# Altium schematic symbol library IMX6DL.SchLib: 59 symbols
Pins are listed as number, name and electrical type; pins without a type are passive.

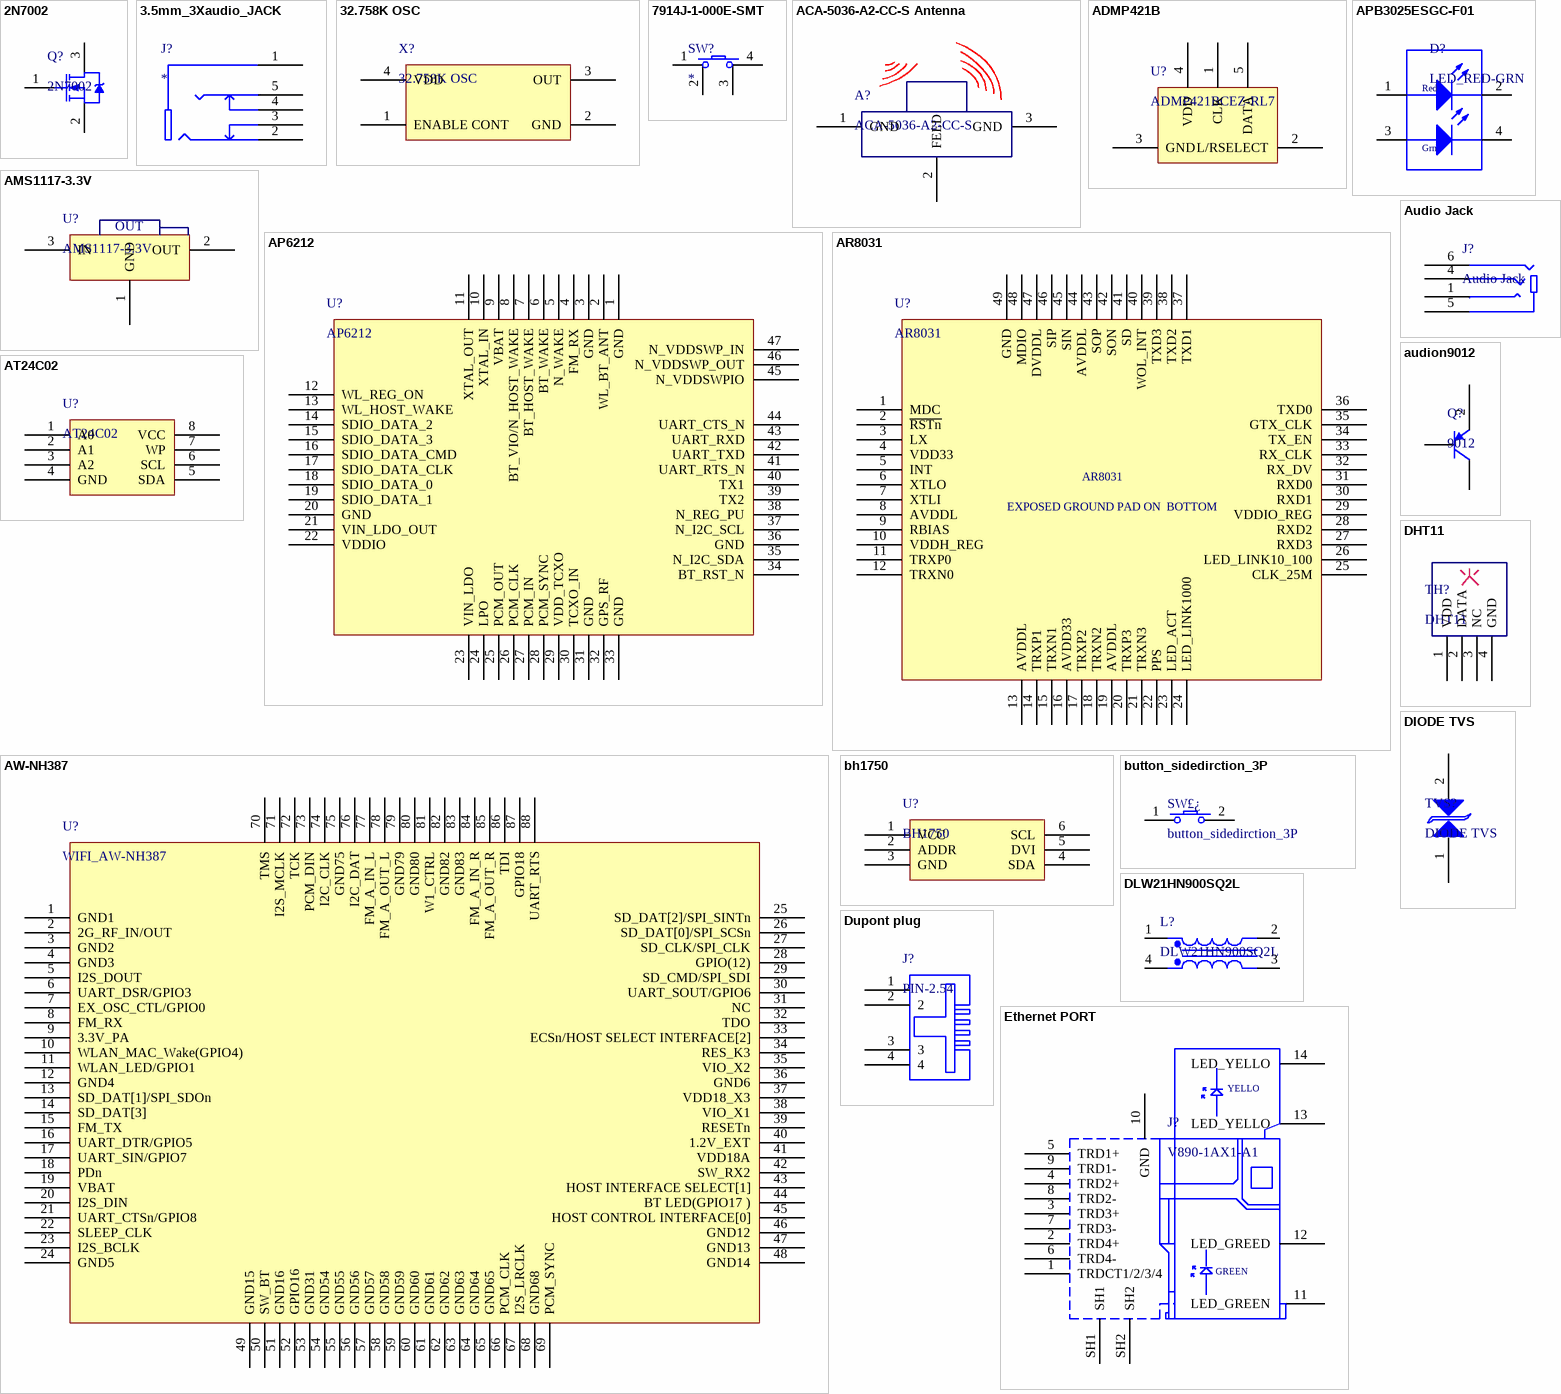
[diagram p0: symbols 2N7002 to Ethernet PORT]

## 2N7002
designator Q?
footprint 2N7002
pins: 1 G, 2 S, 3 D

## 3.5mm_3Xaudio_JACK
designator J?
footprint 3.5mm-3Xaudio-jack
pins: 1 18, 2 19, 3 20, 4 21, 5 22

## 32.758K OSC
designator X?
footprint 32.768K OSC
pins: 1 ENABLE CONT, 2 GND, 3 OUT, 4 VDD

## 7914J-1-000E-SMT
designator SW?
footprint 7914J-1-000E
pins: 1 3, 2 4, 3 5, 4 6

## ACA-5036-A2-CC-S Antenna
designator A?, comment ACA-5036-A2-CC-S
footprint ACA-5036-A2-CC-S
pins: 1 GND, 2 FEED, 3 GND

## ADMP421B
designator U?, comment ADMP421BCEZ-RL7
footprint ADMP421B-LGA_CAV
pins: 1 CLK, 2 L/RSELECT, 3 GND, 4 VDD, 5 DATA

## AMS1117-3.3V
designator U?
footprint AMS1117-3.3_SOT-223
pins: 1 GND, 2 OUT, 3 IN

## AP6212
designator U?
footprint AP6212-LCC44
pins: 1 GND, 2 WL_BT_ANT, 3 GND, 4 FM_RX, 5 N_WAKE, 6 BT_WAKE, 7 BT_HOST_WAKE, 8 BT_VIO/N_HOST_WAKE, 9 VBAT, 10 XTAL_IN, 11 XTAL_OUT, 12 WL_REG_ON, 13 WL_HOST_WAKE, 14 SDIO_DATA_2, 15 SDIO_DATA_3, 16 SDIO_DATA_CMD, 17 SDIO_DATA_CLK, 18 SDIO_DATA_0, 19 SDIO_DATA_1, 20 GND, 21 VIN_LDO_OUT, 22 VDDIO, 23 VIN_LDO, 24 LPO, 25 PCM_OUT, 26 PCM_CLK, 27 PCM_IN, 28 PCM_SYNC, 29 VDD_TCXO, 30 TCXO_IN, 31 GND, 32 GPS_RF, 33 GND, 34 BT_RST_N, 35 N_I2C_SDA, 36 GND, 37 N_I2C_SCL, 38 N_REG_PU, 39 TX2, 40 TX1, 41 UART_RTS_N, 42 UART_TXD, 43 UART_RXD, 44 UART_CTS_N, 45 N_VDDSWPIO, 46 N_VDDSWP_OUT, 47 N_VDDSWP_IN

## APB3025ESGC-F01
designator D?, comment LED_RED-GRN
footprint APB3025ESGC-F01-SMT
pins: 1 GND, 2 GND, 3 GND, 4 GND
text: Red; Grn

## AR8031
designator U?
footprint AR8031
pins: 1 MDC, 2 ~{RSTn}, 3 LX, 4 VDD33, 5 INT, 6 XTLO, 7 XTLI, 8 AVDDL, 9 RBIAS, 10 VDDH_REG, 11 TRXP0, 12 TRXN0, 13 AVDDL, 14 TRXP1, 15 TRXN1, 16 AVDD33, 17 TRXP2, 18 TRXN2, 19 AVDDL, 20 TRXP3, 21 TRXN3, 22 PPS, 23 LED_ACT, 24 LED_LINK1000, 25 CLK_25M, 26 LED_LINK10_100, 27 RXD3, 28 RXD2, 29 VDDIO_REG, 30 RXD1, 31 RXD0, 32 RX_DV, 33 RX_CLK, 34 TX_EN, 35 GTX_CLK, 36 TXD0, 37 TXD1, 38 TXD2, 39 TXD3, 40 WOL_INT, 41 SD, 42 SON, 43 SOP, 44 AVDDL, 45 SIN, 46 SIP, 47 DVDDL, 48 MDIO, 49 GND
text: EXPOSED GROUND PAD ON  BOTTOM

## AT24C02
designator U?
footprint AT24C02-DIP
pins: 1 A0, 2 A1, 3 A2, 4 GND, 5 SDA, 6 SCL, 7 WP, 8 VCC

## Audio Jack
designator J?
footprint SJ-43514
pins: 1 VSS9, 4 VSS8, 5 VSS10, 6 VSS7

## audion9012
designator Q?, comment 9012
footprint audion9012_SOT23
pins: 1 B, 2, 3 C

## AW-NH387
designator U?, comment WIFI_AW-NH387
AW-NH387
footprint AW-NH387_LGA
pins: 1 GND1, 2 2G_RF_IN/OUT, 3 GND2, 4 GND3, 5 I2S_DOUT, 6 UART_DSR/GPIO3, 7 EX_OSC_CTL/GPIO0, 8 FM_RX, 9 3.3V_PA, 10 WLAN_MAC_Wake(GPIO4), 11 WLAN_LED/GPIO1, 12 GND4, 13 SD_DAT[1]/SPI_SDOn, 14 SD_DAT[3], 15 FM_TX, 16 UART_DTR/GPIO5, 17 UART_SIN/GPIO7, 18 PDn, 19 VBAT, 20 I2S_DIN, 21 UART_CTSn/GPIO8, 22 SLEEP_CLK, 23 I2S_BCLK, 24 GND5, 25 SD_DAT[2]/SPI_SINTn, 26 SD_DAT[0]/SPI_SCSn, 27 SD_CLK/SPI_CLK, 28 GPIO(12), 29 SD_CMD/SPI_SDI, 30 UART_SOUT/GPIO6, 31 NC, 32 TDO, 33 ECSn/HOST SELECT INTERFACE[2], 34 RES_K3, 35 VIO_X2, 36 GND6, 37 VDD18_X3, 38 VIO_X1, 39 RESETn, 40 1.2V_EXT, 41 VDD18A, 42 SW_RX2, 43 HOST INTERFACE SELECT[1], 44 BT LED(GPIO17 ), 45 HOST CONTROL INTERFACE[0], 46 GND12, 47 GND13, 48 GND14, 49 GND15, 50 SW_BT, 51 GND16, 52 GPIO16, 53 GND31, 54 GND54, 55 GND55, 56 GND56, 57 GND57, 58 GND58, 59 GND59, 60 GND60, 61 GND61, 62 GND62, 63 GND63, 64 GND64, 65 GND65, 66 PCM_CLK, 67 I2S_LRCLK, 68 GND68, 69 PCM_SYNC, 70 TMS, 71 I2S_MCLK, 72 TCK, 73 PCM_DIN, 74 I2C_CLK, 75 GND75, 76 I2C_DAT, 77 FM_A_IN_L, 78 FM_A_OUT_L, 79 GND79, 80 GND80, 81 W1_CTRL, 82 GND82, 83 GND83, 84 FM_A_IN_R, 85 FM_A_OUT_R, 86 TDI, 87 GPIO18, 88 UART_RTS

## bh1750
designator U?, comment BH1750
pins: 1 VCC, 2 ADDR, 3 GND, 4 SDA, 5 DVI, 6 SCL

## button_sidedirction_3P
designator SW£¿
footprint button_sidedirction_3P 4.5X4.5
pins: 1 3, 2

## DHT11
designator TH?
pins: 1 VDD, 2 DATA, 3 NC, 4 GND

## DIODE TVS
designator TVS?
footprint ESD9B3.3ST5G-SOD923
pins: 1 VSS6, 2 VSS5

## DLW21HN900SQ2L
designator L?
footprint DLW21HN900SQ2L-0805
pins: 1 VSS11, 2 VSS12, 3 VSS13, 4 VSS14

## Dupont plug
designator J?, comment PIN-2.54
footprint Dupon Socket-2.54mm-4P
pins: 1, 2, 3, 4

## Ethernet PORT
designator J?, comment V890-1AX1-A1
footprint V890-1AX1-A1
pins: 1 TRDCT1/2/3/4, 2 TRD4+, 3 TRD3+, 4 TRD2+, 5 TRD1+, 6 TRD4-, 7 TRD3-, 8 TRD2-, 9 TRD1-, 10 GND, 11 LED_GREEN, 12 LED_GREED, 13 LED_YELLO, 14 LED_YELLO, SH1, SH2
text: YELLO; GREEN

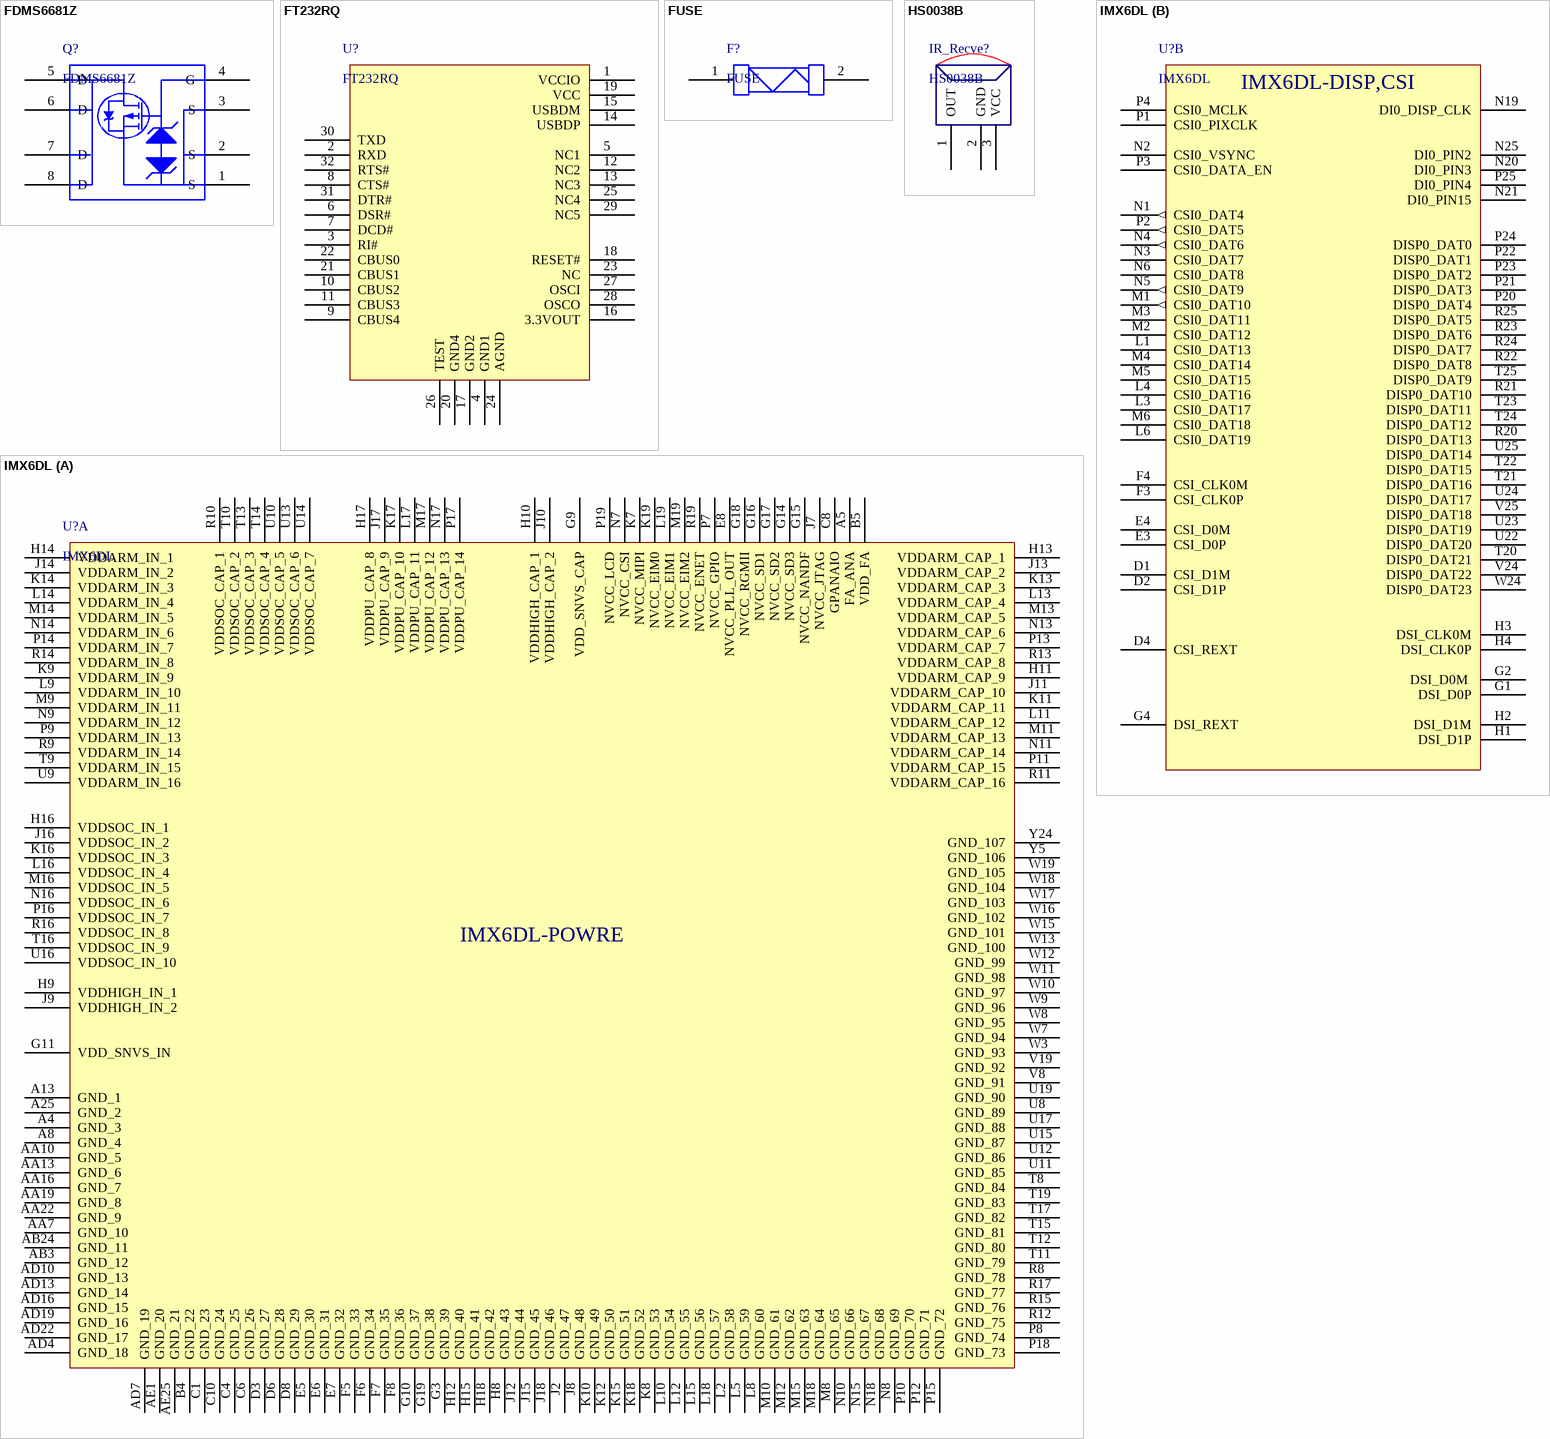
[diagram p1: symbols FDMS6681Z to IMX6DL]

## FDMS6681Z
designator Q?
footprint FDMS6681Z
pins: 1 S, 2 S, 3 S, 4 G, 5 D, 6 D, 7 D, 8 D

## FT232RQ
designator U?
footprint FT232RQ-QFN32
pins: 1 VCCIO, 2 RXD, 3 RI#, 4 GND1, 5 NC1, 6 DSR#, 7 DCD#, 8 CTS#, 9 CBUS4, 10 CBUS2, 11 CBUS3, 12 NC2, 13 NC3, 14 USBDP, 15 USBDM, 16 3.3VOUT, 17 GND2, 18 RESET#, 19 VCC, 20 GND4, 21 CBUS1, 22 CBUS0, 23 NC, 24 AGND, 25 NC4, 26 TEST, 27 OSCI, 28 OSCO, 29 NC5, 30 TXD, 31 DTR#, 32 RTS#

## FUSE
designator F?
footprint FUSE FAST 5A
pins: 1 DSI_REXT, 2 DSI_REXT

## HS0038B
designator IR_Recve?
footprint HS0038B
pins: 1 OUT, 2 GND, 3 VCC

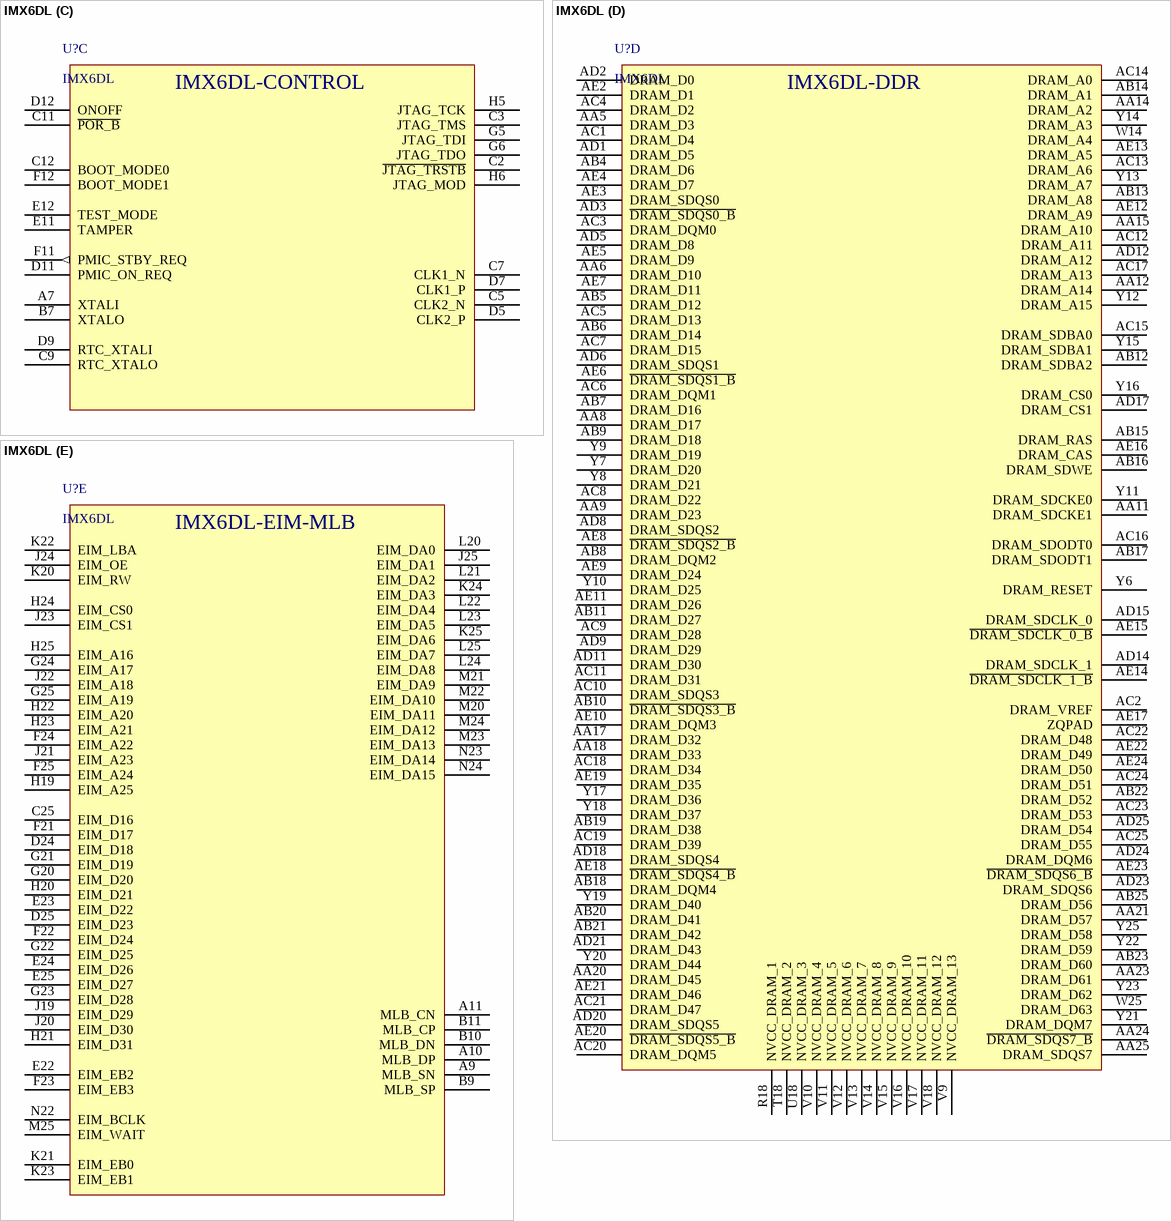
[diagram p2: symbol IMX6DL]

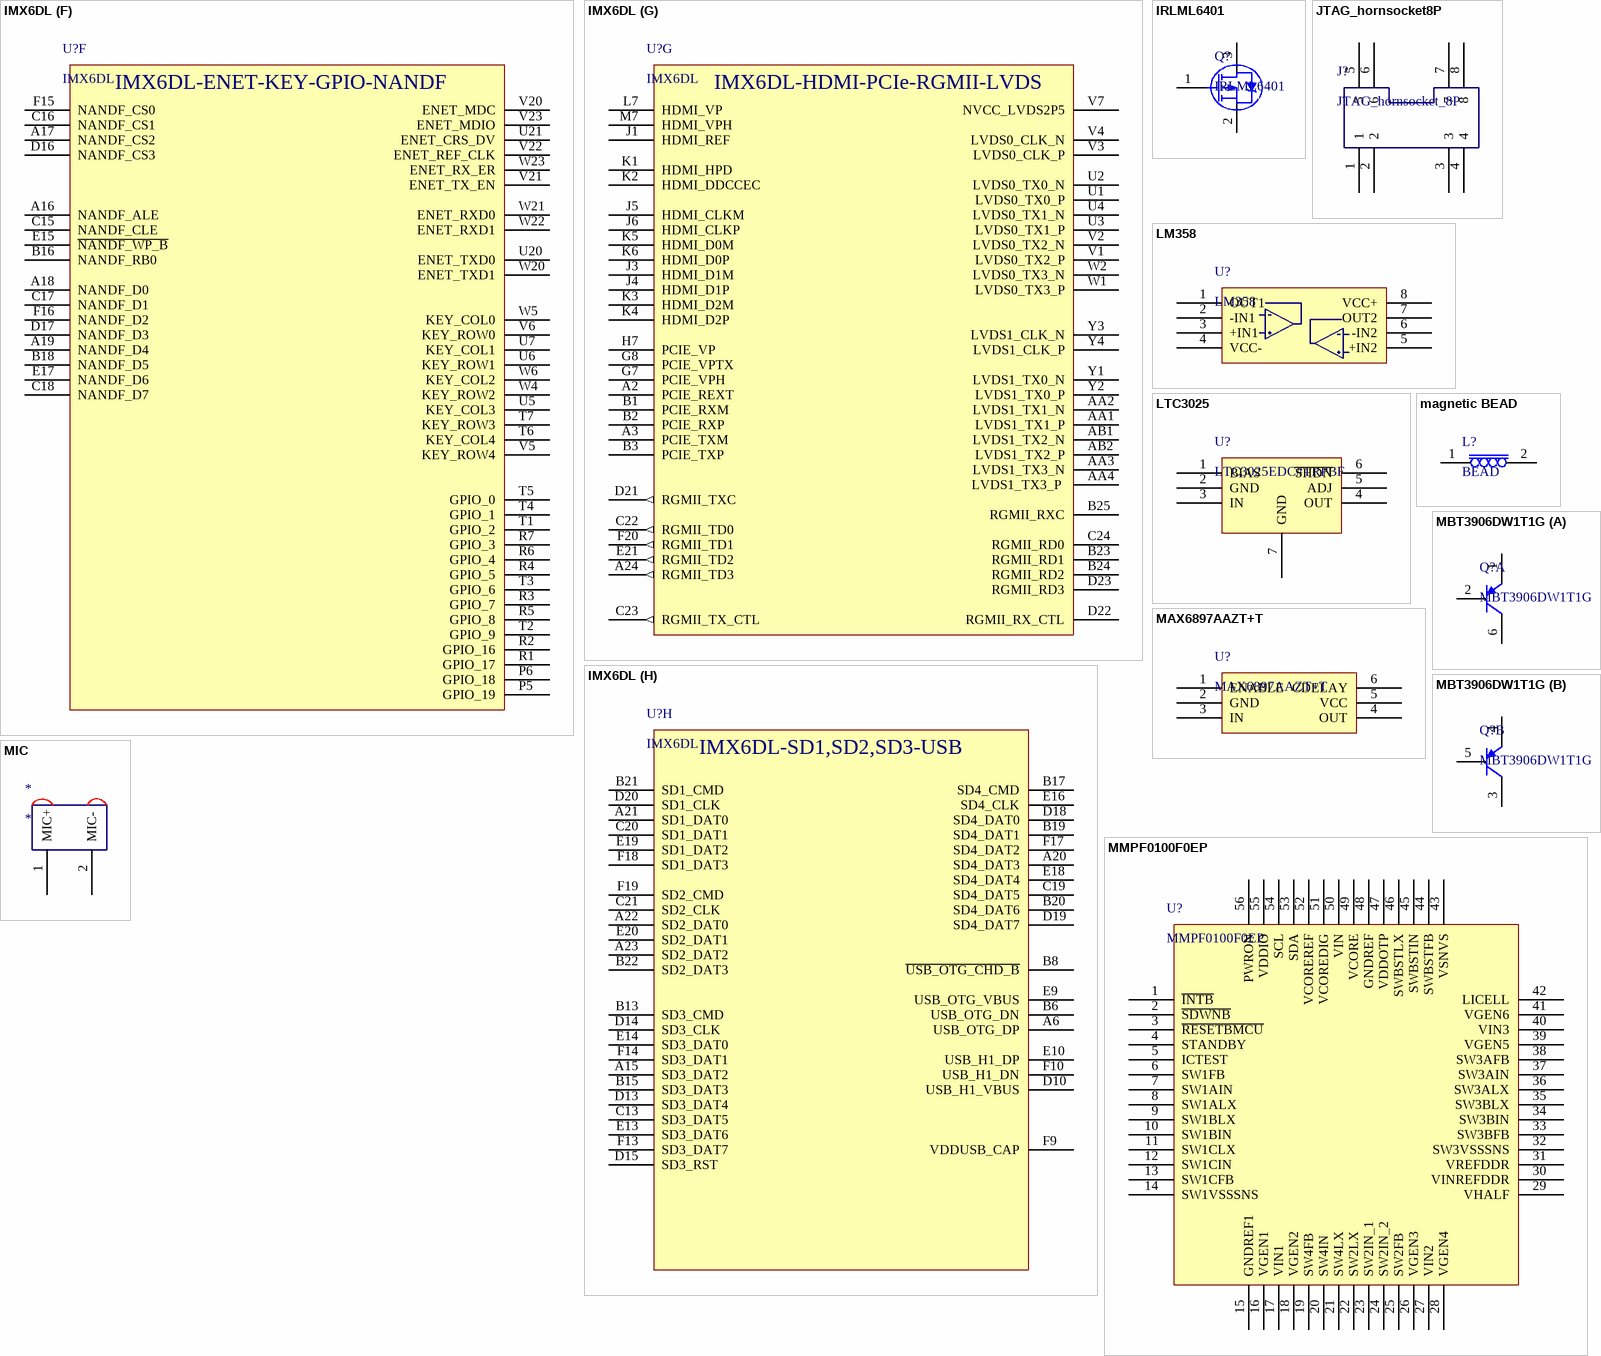
[diagram p3: symbols IMX6DL to MMPF0100F0EP]

## IMX6DL
designator U?
footprint IMX6DL-BGA624x25 (IMX6DL)
part A pins: A4 GND_3, A5 FA_ANA, A8 GND_4, A13 GND_1, A25 GND_2, AA7 GND_10, AA10 GND_5, AA13 GND_6, AA16 GND_7, AA19 GND_8, AA22 GND_9, AB3 GND_12, AB24 GND_11, AD4 GND_18, AD7 GND_19, AD10 GND_13, AD13 GND_14, AD16 GND_15, AD19 GND_16, AD22 GND_17, AE1 GND_20, AE25 GND_21, B4 GND_22, B5 VDD_FA, C1 GND_23, C4 GND_25, C6 GND_26, C8 GPANAIO, C10 GND_24, D3 GND_27, D6 GND_28, D8 GND_29, E5 GND_30, E6 GND_31, E7 GND_32, E8 NVCC_PLL_OUT, F5 GND_33, F6 GND_34, F7 GND_35, F8 GND_36, G3 GND_39, G9 VDD_SNVS_CAP, G10 GND_37, G11 VDD_SNVS_IN, G14 NVCC_SD3, G15 NVCC_NANDF, G16 NVCC_SD1, G17 NVCC_SD2, G18 NVCC_RGMII, G19 GND_38, H8 GND_43, H9 VDDHIGH_IN_1, H10 VDDHIGH_CAP_1, H11 VDDARM_CAP_9, H12 GND_40, H13 VDDARM_CAP_1, H14 VDDARM_IN_1, H15 GND_41, H16 VDDSOC_IN_1, H17 VDDPU_CAP_8, H18 GND_42, J2 GND_47, J7 NVCC_JTAG, J8 GND_48, J9 VDDHIGH_IN_2, J10 VDDHIGH_CAP_2, J11 VDDARM_CAP_10, J12 GND_44, J13 VDDARM_CAP_2, J14 VDDARM_IN_2, J15 GND_45, J16 VDDSOC_IN_2, J17 VDDPU_CAP_9, J18 GND_46, K7 NVCC_MIPI, K8 GND_53, K9 VDDARM_IN_9, K10 GND_49, K11 VDDARM_CAP_11, K12 GND_50, K13 VDDARM_CAP_3, K14 VDDARM_IN_3, K15 GND_51, K16 VDDSOC_IN_3, K17 VDDPU_CAP_10, K18 GND_52, K19 NVCC_EIM0, L2 GND_58, L5 GND_59, L8 GND_60, L9 VDDARM_IN_10, L10 GND_54, L11 VDDARM_CAP_12, L12 GND_55, L13 VDDARM_CAP_4, L14 VDDARM_IN_4, L15 GND_56, L16 VDDSOC_IN_4, L17 VDDPU_CAP_11, L18 GND_57, L19 NVCC_EIM1, M8 GND_65, M9 VDDARM_IN_11, M10 GND_61, M11 VDDARM_CAP_13, M12 GND_62, M13 VDDARM_CAP_5, M14 VDDARM_IN_5, M15 GND_63, M16 VDDSOC_IN_5, M17 VDDPU_CAP_12, M18 GND_64, M19 NVCC_EIM2, N7 NVCC_CSI, N8 GND_69, N9 VDDARM_IN_12, N10 GND_66, N11 VDDARM_CAP_14, N13 VDDARM_CAP_6, N14 VDDARM_IN_6, N15 GND_67, N16 VDDSOC_IN_6, N17 VDDPU_CAP_13, N18 GND_68, P7 NVCC_GPIO, P8 GND_74, P9 VDDARM_IN_13, P10 GND_70, P11 VDDARM_CAP_15, P12 GND_71, P13 VDDARM_CAP_7, P14 VDDARM_IN_7, P15 GND_72, P16 VDDSOC_IN_7, P17 VDDPU_CAP_14, P18 GND_73, P19 NVCC_LCD, R8 GND_78, R9 VDDARM_IN_14, R10 VDDSOC_CAP_1, R11 VDDARM_CAP_16, R12 GND_75, R13 VDDARM_CAP_8, R14 VDDARM_IN_8, R15 GND_76, R16 VDDSOC_IN_8, R17 GND_77, R19 NVCC_ENET, T8 GND_84, T9 VDDARM_IN_15, T10 VDDSOC_CAP_2, T11 GND_79, T12 GND_80, T13 VDDSOC_CAP_3, T14 VDDSOC_CAP_4, T15 GND_81, T16 VDDSOC_IN_9, T17 GND_82, T19 GND_83, U8 GND_89, U9 VDDARM_IN_16, U10 VDDSOC_CAP_5, U11 GND_85, U12 GND_86, U13 VDDSOC_CAP_6, U14 VDDSOC_CAP_7, U15 GND_87, U16 VDDSOC_IN_10, U17 GND_88, U19 GND_90, V8 GND_91, V19 GND_92, W3 GND_93, W7 GND_94, W8 GND_95, W9 GND_96, W10 GND_97, W11 GND_98, W12 GND_99, W13 GND_100, W15 GND_101, W16 GND_102, W17 GND_103, W18 GND_104, W19 GND_105, Y5 GND_106, Y24 GND_107
part B pins: D1 CSI_D1M, D2 CSI_D1P, D4 CSI_REXT, E3 CSI_D0P, E4 CSI_D0M, F3 CSI_CLK0P, F4 CSI_CLK0M, G1 DSI_D0P, G2 DSI_D0M , G4 DSI_REXT, H1 DSI_D1P, H2 DSI_D1M, H3 DSI_CLK0M, H4 DSI_CLK0P, L1 CSI0_DAT13, L3 CSI0_DAT17, L4 CSI0_DAT16, L6 CSI0_DAT19, M1 CSI0_DAT10 (out), M2 CSI0_DAT12, M3 CSI0_DAT11, M4 CSI0_DAT14, M5 CSI0_DAT15, M6 CSI0_DAT18, N1 CSI0_DAT4 (out), N2 CSI0_VSYNC, N3 CSI0_DAT7, N4 CSI0_DAT6 (out), N5 CSI0_DAT9 (out), N6 CSI0_DAT8, N19 DI0_DISP_CLK, N20 DI0_PIN3, N21 DI0_PIN15, N25 DI0_PIN2, P1 CSI0_PIXCLK, P2 CSI0_DAT5 (out), P3 CSI0_DATA_EN, P4 CSI0_MCLK, P20 DISP0_DAT4, P21 DISP0_DAT3, P22 DISP0_DAT1, P23 DISP0_DAT2, P24 DISP0_DAT0, P25 DI0_PIN4, R20 DISP0_DAT13, R21 DISP0_DAT10, R22 DISP0_DAT8, R23 DISP0_DAT6, R24 DISP0_DAT7, R25 DISP0_DAT5, T20 DISP0_DAT21, T21 DISP0_DAT16, T22 DISP0_DAT15, T23 DISP0_DAT11, T24 DISP0_DAT12, T25 DISP0_DAT9, U22 DISP0_DAT20, U23 DISP0_DAT19, U24 DISP0_DAT17, U25 DISP0_DAT14, V24 DISP0_DAT22, V25 DISP0_DAT18, W24 DISP0_DAT23
part C pins: A7 XTALI, B7 XTALO, C2 ~{JTAG_TRSTB}, C3 JTAG_TMS, C5 CLK2_N, C7 CLK1_N, C9 RTC_XTALO, C11 ~{POR_B}, C12 BOOT_MODE0, D5 CLK2_P, D7 CLK1_P, D9 RTC_XTALI, D11 PMIC_ON_REQ, D12 ONOFF, E11 TAMPER, E12 TEST_MODE, F11 PMIC_STBY_REQ (out), F12 BOOT_MODE1, G5 JTAG_TDI, G6 JTAG_TDO, H5 JTAG_TCK, H6 JTAG_MOD
part D pins: AA5 DRAM_D3, AA6 DRAM_D10, AA8 DRAM_D17, AA9 DRAM_D23, AA11 DRAM_SDCKE1, AA12 DRAM_A14, AA14 DRAM_A2, AA15 DRAM_A10, AA17 DRAM_D32, AA18 DRAM_D33, AA20 DRAM_D45, AA21 DRAM_D57, AA23 DRAM_D61, AA24 ~{DRAM_SDQS7_B}, AA25 DRAM_SDQS7, AB4 DRAM_D6, AB5 DRAM_D12, AB6 DRAM_D14, AB7 DRAM_D16, AB8 DRAM_DQM2, AB9 DRAM_D18, AB10 ~{DRAM_SDQS3_B}, AB11 DRAM_D27, AB12 DRAM_SDBA2, AB13 DRAM_A8, AB14 DRAM_A1, AB15 DRAM_RAS, AB16 DRAM_SDWE, AB17 DRAM_SDODT1, AB18 DRAM_DQM4, AB19 DRAM_D38, AB20 DRAM_D41, AB21 DRAM_D42, AB22 DRAM_D52, AB23 DRAM_D60, AB25 DRAM_D56, AC1 DRAM_D4, AC2 DRAM_VREF, AC3 DRAM_DQM0, AC4 DRAM_D2, AC5 DRAM_D13, AC6 DRAM_DQM1, AC7 DRAM_D15, AC8 DRAM_D22, AC9 DRAM_D28, AC10 DRAM_SDQS3, AC11 DRAM_D31, AC12 DRAM_A11, AC13 DRAM_A6, AC14 DRAM_A0, AC15 DRAM_SDBA0, AC16 DRAM_SDODT0, AC17 DRAM_A13, AC18 DRAM_D34, AC19 DRAM_D39, AC20 DRAM_DQM5, AC21 DRAM_D47, AC22 DRAM_D48, AC23 DRAM_D53, AC24 DRAM_D51, AC25 DRAM_D55, AD1 DRAM_D5, AD2 DRAM_D0, AD3 ~{DRAM_SDQS0_B}, AD5 DRAM_D8, AD6 DRAM_SDQS1, AD8 DRAM_SDQS2, AD9 DRAM_D29, AD11 DRAM_D30, AD12 DRAM_A12, AD14 DRAM_SDCLK_1, AD15 DRAM_SDCLK_0, AD17 DRAM_CS1, AD18 DRAM_SDQS4, AD20 DRAM_SDQS5, AD21 DRAM_D43, AD23 DRAM_SDQS6, AD24 DRAM_DQM6, AD25 DRAM_D54, AE2 DRAM_D1, AE3 DRAM_SDQS0, AE4 DRAM_D7, AE5 DRAM_D9, AE6 ~{DRAM_SDQS1_B}, AE7 DRAM_D11, AE8 ~{DRAM_SDQS2_B}, AE9 DRAM_D24, AE10 DRAM_DQM3, AE11 DRAM_D26, AE12 DRAM_A9, AE13 DRAM_A5, AE14 ~{DRAM_SDCLK_1_B}, AE15 ~{DRAM_SDCLK_0_B}, AE16 DRAM_CAS, AE17 ZQPAD, AE18 ~{DRAM_SDQS4_B}, AE19 DRAM_D35, AE20 ~{DRAM_SDQS5_B}, AE21 DRAM_D46, AE22 DRAM_D49, AE23 ~{DRAM_SDQS6_B}, AE24 DRAM_D50, R18 NVCC_DRAM_1, T18 NVCC_DRAM_2, U18 NVCC_DRAM_3, V9 NVCC_DRAM_13, V10 NVCC_DRAM_4, V11 NVCC_DRAM_5, V12 NVCC_DRAM_6, V13 NVCC_DRAM_7, V14 NVCC_DRAM_8, V15 NVCC_DRAM_9, V16 NVCC_DRAM_10, V17 NVCC_DRAM_11, V18 NVCC_DRAM_12, W14 DRAM_A4, W25 DRAM_D63, Y6 DRAM_RESET, Y7 DRAM_D20, Y8 DRAM_D21, Y9 DRAM_D19, Y10 DRAM_D25, Y11 DRAM_SDCKE0, Y12 DRAM_A15, Y13 DRAM_A7, Y14 DRAM_A3, Y15 DRAM_SDBA1, Y16 DRAM_CS0, Y17 DRAM_D36, Y18 DRAM_D37, Y19 DRAM_D40, Y20 DRAM_D44, Y21 DRAM_DQM7, Y22 DRAM_D59, Y23 DRAM_D62, Y25 DRAM_D58
part E pins: A9 MLB_SN, A10 MLB_DP, A11 MLB_CN, B9 MLB_SP, B10 MLB_DN, B11 MLB_CP, C25 EIM_D16, D24 EIM_D18, D25 EIM_D23, E22 EIM_EB2, E23 EIM_D22, E24 EIM_D26, E25 EIM_D27, F21 EIM_D17, F22 EIM_D24, F23 EIM_EB3, F24 EIM_A22, F25 EIM_A24, G20 EIM_D20, G21 EIM_D19, G22 EIM_D25, G23 EIM_D28, G24 EIM_A17, G25 EIM_A19, H19 EIM_A25, H20 EIM_D21, H21 EIM_D31, H22 EIM_A20, H23 EIM_A21, H24 EIM_CS0, H25 EIM_A16, J19 EIM_D29, J20 EIM_D30, J21 EIM_A23, J22 EIM_A18, J23 EIM_CS1, J24 EIM_OE, J25 EIM_DA1, K20 EIM_RW, K21 EIM_EB0, K22 EIM_LBA, K23 EIM_EB1, K24 EIM_DA3, K25 EIM_DA6, L20 EIM_DA0, L21 EIM_DA2, L22 EIM_DA4, L23 EIM_DA5, L24 EIM_DA8, L25 EIM_DA7, M20 EIM_DA11, M21 EIM_DA9, M22 EIM_DA10, M23 EIM_DA13, M24 EIM_DA12, M25 EIM_WAIT, N22 EIM_BCLK, N23 EIM_DA14, N24 EIM_DA15
part F pins: A16 NANDF_ALE, A17 NANDF_CS2, A18 NANDF_D0, A19 NANDF_D4, B16 NANDF_RB0, B18 NANDF_D5, C15 NANDF_CLE, C16 NANDF_CS1, C17 NANDF_D1, C18 NANDF_D7, D16 NANDF_CS3, D17 NANDF_D3, E15 ~{NANDF_WP_B}, E17 NANDF_D6, F15 NANDF_CS0, F16 NANDF_D2, P5 GPIO_19, P6 GPIO_18, R1 GPIO_17, R2 GPIO_16, R3 GPIO_7, R4 GPIO_5, R5 GPIO_8, R6 GPIO_4, R7 GPIO_3, T1 GPIO_2, T2 GPIO_9, T3 GPIO_6, T4 GPIO_1, T5 GPIO_0, T6 KEY_COL4, T7 KEY_ROW3, U5 KEY_COL3, U6 KEY_ROW1, U7 KEY_COL1, U20 ENET_TXD0, U21 ENET_CRS_DV, V5 KEY_ROW4, V6 KEY_ROW0, V20 ENET_MDC, V21 ENET_TX_EN, V22 ENET_REF_CLK, V23 ENET_MDIO, W4 KEY_ROW2, W5 KEY_COL0, W6 KEY_COL2, W20 ENET_TXD1, W21 ENET_RXD0, W22 ENET_RXD1, W23 ENET_RX_ER
part G pins: A2 PCIE_REXT, A3 PCIE_TXM, A24 RGMII_TD3 (out), AA1 LVDS1_TX1_P, AA2 LVDS1_TX1_N, AA3 LVDS1_TX3_N, AA4 LVDS1_TX3_P , AB1 LVDS1_TX2_N, AB2 LVDS1_TX2_P, B1 PCIE_RXM, B2 PCIE_RXP, B3 PCIE_TXP, B23 RGMII_RD1, B24 RGMII_RD2, B25 RGMII_RXC, C22 RGMII_TD0 (out), C23 RGMII_TX_CTL (out), C24 RGMII_RD0, D21 RGMII_TXC (out), D22 RGMII_RX_CTL, D23 RGMII_RD3, E21 RGMII_TD2 (out), F20 RGMII_TD1 (out), G7 PCIE_VPH, G8 PCIE_VPTX, H7 PCIE_VP, J1 HDMI_REF, J3 HDMI_D1M, J4 HDMI_D1P, J5 HDMI_CLKM, J6 HDMI_CLKP, K1 HDMI_HPD, K2 HDMI_DDCCEC, K3 HDMI_D2M, K4 HDMI_D2P, K5 HDMI_D0M, K6 HDMI_D0P, L7 HDMI_VP, M7 HDMI_VPH, U1 LVDS0_TX0_P, U2 LVDS0_TX0_N, U3 LVDS0_TX1_P, U4 LVDS0_TX1_N, V1 LVDS0_TX2_P, V2 LVDS0_TX2_N, V3 LVDS0_CLK_P, V4 LVDS0_CLK_N, V7 NVCC_LVDS2P5, W1 LVDS0_TX3_P, W2 LVDS0_TX3_N, Y1 LVDS1_TX0_N, Y2 LVDS1_TX0_P, Y3 LVDS1_CLK_N, Y4 LVDS1_CLK_P
part H pins: A6 USB_OTG_DP, A15 SD3_DAT2, A20 SD4_DAT3, A21 SD1_DAT0, A22 SD2_DAT0, A23 SD2_DAT2, B6 USB_OTG_DN, B8 ~{USB_OTG_CHD_B}, B13 SD3_CMD, B15 SD3_DAT3, B17 SD4_CMD, B19 SD4_DAT1, B20 SD4_DAT6, B21 SD1_CMD, B22 SD2_DAT3, C13 SD3_DAT5, C19 SD4_DAT5, C20 SD1_DAT1, C21 SD2_CLK, D10 USB_H1_VBUS, D13 SD3_DAT4, D14 SD3_CLK, D15 SD3_RST, D18 SD4_DAT0, D19 SD4_DAT7, D20 SD1_CLK, E9 USB_OTG_VBUS, E10 USB_H1_DP, E13 SD3_DAT6, E14 SD3_DAT0, E16 SD4_CLK, E18 SD4_DAT4, E19 SD1_DAT2, E20 SD2_DAT1, F9 VDDUSB_CAP, F10 USB_H1_DN, F13 SD3_DAT7, F14 SD3_DAT1, F17 SD4_DAT2, F18 SD1_DAT3, F19 SD2_CMD
part A text: IMX6DL-POWRE
part B text: IMX6DL-DISP,CSI
part C text: IMX6DL-CONTROL
part D text: IMX6DL-DDR
part E text: IMX6DL-EIM-MLB
part F text: IMX6DL-ENET-KEY-GPIO-NANDF
part G text: IMX6DL-HDMI-PCIe-RGMII-LVDS
part H text: IMX6DL-SD1,SD2,SD3-USB

## IRLML6401
designator Q?
footprint IRLML6401
pins: 1 G, 2 S, 3 D

## JTAG_hornsocket8P
designator J?, comment JTAG_hornsocket_8P
footprint DC3-8
pins: 1, 2, 3, 4, 5, 6, 7, 8

## LM358
designator U?
footprint LM358-SO8
pins: 1 OUT1, 2 -IN1, 3 +IN1, 4 VCC-, 5 +IN2, 6 -IN2, 7 OUT2, 8 VCC+

## LTC3025
designator U?, comment LTC3025EDC#TRPBF
footprint LTC3025
pins: 1 BIAS, 2 GND, 3 IN, 4 OUT, 5 ADJ, 6 ~{SHDN}, 7 GND

## magnetic BEAD
designator L?, comment BEAD
pins: 1 VSS3, 2 VSS4

## MAX6897AAZT+T
designator U?
footprint MAX6897-SOT23-6
pins: 1 ENABLE, 2 GND, 3 IN, 4 OUT, 5 VCC, 6 CDELAY

## MBT3906DW1T1G
designator Q?
footprint MBT3906DW1T1-SOT363
part A pins: 1 E, 2 B, 6 C
part B pins: 3 C, 4 E, 5 B

## MIC
designator *
pins: 1 MIC+, 2 MIC-

## MMPF0100F0EP
designator U?
footprint MMP0100F0AEP
pins: 1 ~{INTB}, 2 ~{SDWNB}, 3 ~{RESETBMCU}, 4 STANDBY, 5 ICTEST, 6 SW1FB, 7 SW1AIN, 8 SW1ALX, 9 SW1BLX, 10 SW1BIN, 11 SW1CLX, 12 SW1CIN, 13 SW1CFB, 14 SW1VSSSNS, 15 GNDREF1, 16 VGEN1, 17 VIN1, 18 VGEN2, 19 SW4FB, 20 SW4IN, 21 SW4LX, 22 SW2LX, 23 SW2IN_1, 24 SW2IN_2, 25 SW2FB, 26 VGEN3, 27 VIN2, 28 VGEN4, 29 VHALF, 30 VINREFDDR, 31 VREFDDR, 32 SW3VSSSNS, 33 SW3BFB, 34 SW3BIN, 35 SW3BLX, 36 SW3ALX, 37 SW3AIN, 38 SW3AFB, 39 VGEN5, 40 VIN3, 41 VGEN6, 42 LICELL, 43 VSNVS, 44 SWBSTFB, 45 SWBSTIN, 46 SWBSTLX, 47 VDDOTP, 48 GNDREF, 49 VCORE, 50 VIN, 51 VCOREDIG, 52 VCOREREF, 53 SDA, 54 SCL, 55 VDDIO, 56 PWRON

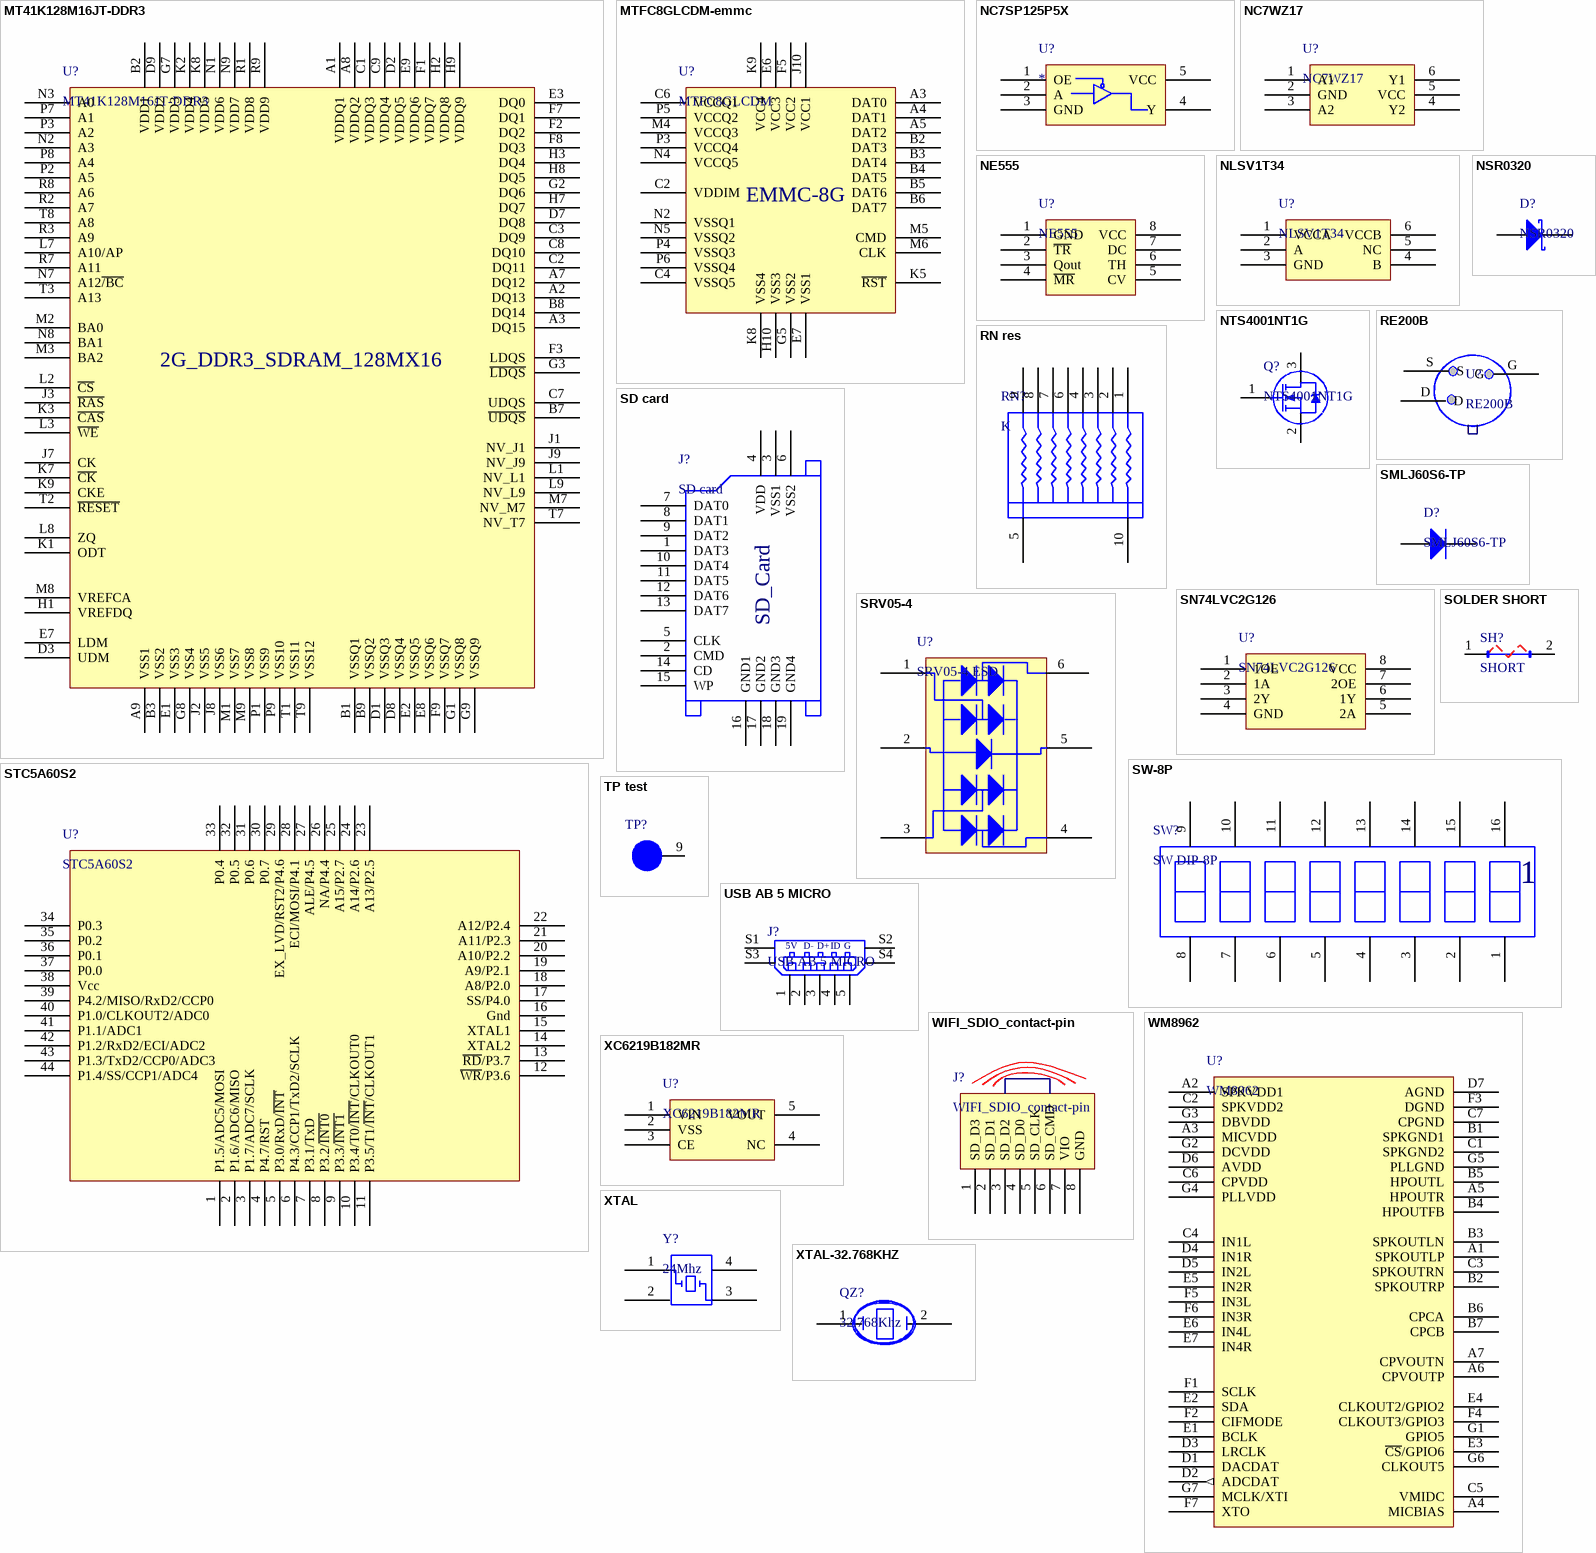
[diagram p4: symbols MT41K128M16JT-DDR3 to XTAL-32.768KHZ]

## MT41K128M16JT-DDR3
designator U?
footprint MT41K128M16JT-BGA96
pins: A1 VDDQ1, A2 DQ13, A3 DQ15, A7 DQ12, A8 VDDQ2, A9 VSS1, B1 VSSQ1, B2 VDD1, B3 VSS2, B7 ~{UDQS}, B8 DQ14, B9 VSSQ2, C1 VDDQ3, C2 DQ11, C3 DQ9, C7 UDQS, C8 DQ10, C9 VDDQ4, D1 VSSQ3, D2 VDDQ5, D3 UDM, D7 DQ8, D8 VSSQ4, D9 VDD2, E1 VSS3, E2 VSSQ5, E3 DQ0, E7 LDM, E8 VSSQ6, E9 VDDQ6, F1 VDDQ7, F2 DQ2, F3 LDQS, F7 DQ1, F8 DQ3, F9 VSSQ7, G1 VSSQ8, G2 DQ6, G3 ~{LDQS}, G7 VDD3, G8 VSS4, G9 VSSQ9, H1 VREFDQ, H2 VDDQ8, H3 DQ4, H7 DQ7, H8 DQ5, H9 VDDQ9, J1 NV_J1, J2 VSS5, J3 ~{RAS}, J7 CK, J8 VSS6, J9 NV_J9, K1 ODT, K2 VDD4, K3 ~{CAS}, K7 ~{CK}, K8 VDD5, K9 CKE, L1 NV_L1, L2 ~{CS}, L3 ~{WE}, L7 A10/AP, L8 ZQ, L9 NV_L9, M1 VSS7, M2 BA0, M3 BA2, M7 NV_M7, M8 VREFCA, M9 VSS8, N1 VDD6, N2 A3, N3 A0, N7 A12~{/BC}, N8 BA1, N9 VDD7, P1 VSS9, P2 A5, P3 A2, P7 A1, P8 A4, P9 VSS10, R1 VDD8, R2 A7, R3 A9, R7 A11, R8 A6, R9 VDD9, T1 VSS11, T2 ~{RESET}, T3 A13, T7 NV_T7, T8 A8, T9 VSS12
text: 2G_DDR3_SDRAM_128MX16

## MTFC8GLCDM-emmc
designator U?, comment MTFC8GLCDM
footprint SDIN8DE2-4G-EMMC-BGA153
pins: A3 DAT0, A4 DAT1, A5 DAT2, B2 DAT3, B3 DAT4, B4 DAT5, B5 DAT6, B6 DAT7, C2 VDDIM, C4 VSSQ5, C6 VCCQ1, E6 VCC3, E7 VSS1, F5 VCC2, G5 VSS2, H10 VSS3, J10 VCC1, K5 ~{RST}, K8 VSS4, K9 VCC4, M4 VCCQ3, M5 CMD, M6 CLK, N2 VSSQ1, N4 VCCQ5, N5 VSSQ2, P3 VCCQ4, P4 VSSQ3, P5 VCCQ2, P6 VSSQ4
text: EMMC-8G

## NC7SP125P5X
designator U?
footprint NC7SP125P5X
pins: 1 OE, 2 A, 3 GND, 4 Y, 5 VCC

## NC7WZ17
designator U?
footprint NC7WZ17-SC70-6
pins: 1 A1, 2 GND, 3 A2, 4 Y2, 5 VCC, 6 Y1

## NE555
designator U?
footprint NE555
pins: 1 GND, 2 ~{TR}, 3 Qout, 4 ~{MR}, 5 CV, 6 TH, 7 DC, 8 VCC

## NLSV1T34
designator U?
footprint NLSV1T34AM
pins: 1 VCCA, 2 A, 3 GND, 4 B, 5 NC, 6 VCCB

## NSR0320
designator D?
footprint NSR0320MW2T1G-SOD323
pins: 1 A, 2 C

## NTS4001NT1G
designator Q?
footprint NTS4001NT1G-SOT323
pins: 1 G, 2 S, 3 D

## RE200B
designator U?
footprint RE200B_human_IR
pins: D, G, S

## RN res
designator RN?, comment K
footprint RN_resistance -SMT8
pins: 1 19, 2 20, 3 21, 4 22, 5 17, 6 23, 7 24, 8 25, 9 26, 10 18

## SD card
designator J?
footprint SD_card
pins: 1 DAT3, 2 CMD, 3 VSS1, 4 VDD, 5 CLK, 6 VSS2, 7 DAT0, 8 DAT1, 9 DAT2, 10 DAT4, 11 DAT5, 12 DAT6, 13 DAT7, 14 CD, 15 WP, 16 GND1, 17 GND2, 18 GND3, 19 GND4
text: SD_Card

## SMLJ60S6-TP
designator D?
pins: A, B K

## SN74LVC2G126
designator U?
footprint SN74LVC2G126-SSOP8
pins: 1 1OE, 2 1A, 3 2Y, 4 GND, 5 2A, 6 1Y, 7 2OE, 8 VCC

## SOLDER SHORT
designator SH?, comment SHORT
footprint SHORT_SH
pins: 1 VCCIO, 2 VCCIO

## SRV05-4
designator U?, comment SRV05-4 ESD
pins: 1 GND, 2 GND, 3 GND, 4 GND, 5 GND, 6 GND

## STC5A60S2
designator U?
footprint STC5A60S2_LQFP44
pins: 1 P1.5/ADC5/MOSI, 2 P1.6/ADC6/MISO, 3 P1.7/ADC7/SCLK, 4 P4.7/RST, 5 P3.0/RxD/~{INT}, 6 P4.3/CCP1/TxD2/SCLK, 7 P3.1/TxD, 8 P3.2/~{INT0}, 9 P3.3/~{INT1}, 10 P3.4/T0/~{INT}/CLKOUT0, 11 P3.5/T1/~{INT}/CLKOUT1, 12 ~{WR}/P3.6, 13 ~{RD}/P3.7, 14 XTAL2, 15 XTAL1, 16 Gnd, 17 SS/P4.0, 18 A8/P2.0, 19 A9/P2.1, 20 A10/P2.2, 21 A11/P2.3, 22 A12/P2.4, 23 A13/P2.5, 24 A14/P2.6, 25 A15/P2.7, 26 NA/P4.4, 27 ALE/P4.5, 28 ECI/MOSI/P4.1, 29 EX_LVD/RST2/P4.6, 30 P0.7, 31 P0.6, 32 P0.5, 33 P0.4, 34 P0.3, 35 P0.2, 36 P0.1, 37 P0.0, 38 Vcc, 39 P4.2/MISO/RxD2/CCP0, 40 P1.0/CLKOUT2/ADC0, 41 P1.1/ADC1, 42 P1.2/RxD2/ECI/ADC2, 43 P1.3/TxD2/CCP0/ADC3, 44 P1.4/SS/CCP1/ADC4

## SW-8P
designator SW?, comment SW DIP-8P
footprint dial switch -SMT DIP8
pins: 1 VDDUSB_CAP, 2 VDDUSB_CAP, 3 VDDUSB_CAP, 4 VDDUSB_CAP, 5 VDDUSB_CAP, 6 VDDUSB_CAP, 7 VDDUSB_CAP, 8 VDDUSB_CAP, 9, 10, 11, 12, 13, 14, 15, 16

## TP test
designator TP?  (value not drawn)
footprint TP
pins: 9 S

## USB AB 5 MICRO
designator J?
footprint micro-USB-port
pins: 1 GND, 2 GND, 3 GND, 4 GND, 5 GND, S1 6, S2 7, S3 8, S4 9
text: 5V; D-; D+; ID; G

## WIFI_SDIO_contact-pin
designator J?
footprint WIFI_SDIO_PIN
pins: 1 SD_D3, 2 SD_D1, 3 SD_D2, 4 SD_D0, 5 SD_CLK, 6 SD_CMD, 7 VIO, 8 GND

## WM8962
designator U?
footprint WM8962-BGA49
pins: A1 SPKOUTLP, A2 SPKVDD1, A3 MICVDD, A4 MICBIAS, A5 HPOUTR, A6 CPVOUTP, A7 CPVOUTN, B1 SPKGND1, B2 SPKOUTRP, B3 SPKOUTLN, B4 HPOUTFB, B5 HPOUTL, B6 CPCA, B7 CPCB, C1 SPKGND2, C2 SPKVDD2, C3 SPKOUTRN, C4 IN1L, C5 VMIDC, C6 CPVDD, C7 CPGND, D1 DACDAT, D2 ADCDAT (out), D3 LRCLK, D4 IN1R, D5 IN2L, D6 AVDD, D7 AGND, E1 BCLK, E2 SDA, E3 ~{CS}/GPIO6, E4 CLKOUT2/GPIO2, E5 IN2R, E6 IN4L, E7 IN4R, F1 SCLK, F2 CIFMODE, F3 DGND, F4 CLKOUT3/GPIO3, F5 IN3L, F6 IN3R, F7 XTO, G1 GPIO5, G2 DCVDD, G3 DBVDD, G4 PLLVDD, G5 PLLGND, G6 CLKOUT5, G7 MCLK/XTI

## XC6219B182MR
designator U?
footprint XC6219B182MR-SOT-25
pins: 1 VIN, 2 VSS, 3 CE, 4 NC, 5 VOUT

## XTAL
designator Y?, comment 24Mhz
footprint XTAL-ABMM-25M
pins: 1 57, 2 58, 3 59, 4 60

## XTAL-32.768KHZ
designator QZ?, comment 32.768Khz
footprint XTAL32.768Khz-SMT
pins: 1, 2